# EAGLE library part 613006243121 (library Wuerth_Elektronik_eiCan_Pin_&_Socked_Headers_v1.3)
WR-PHD Angled Dual Socket Header, 6 Pins
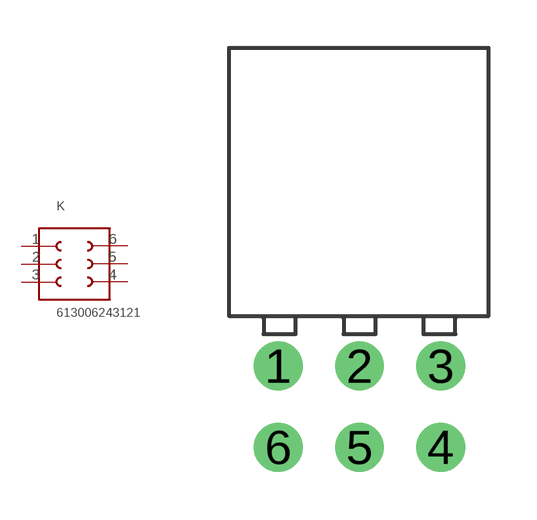
[diagram p166: symbol with the pads of 613006243121; footprint 613006243121]

Designator prefix K

## 613006243121  [613006243121]
1  1  pas
2  2  pas
3  3  pas
4  4  pas
5  5  pas
6  6  pas

## Footprint 613006243121 (pad centres in mm)
WR-PHD Angled Dual Socket Header, 6 Pins
drill 1.02 round: 1 -2.54,0; 2 0,0; 3 2.54,0; 4 2.54,-2.54; 5 0,-2.54; 6 -2.54,-2.54